# Altium footprint library TSW-104-14-T-S.PcbLib: 1 footprints
Each footprint in its own frame and in the unit in brackets; x right, y up, seen from the top. Pads: shape width x height; smd on the part's side, far side on the other; paste and mask are expansions set on the pad; w line width, h text height; cw(c..) or ccw(c..) is an arc to the next point about the centre after c.
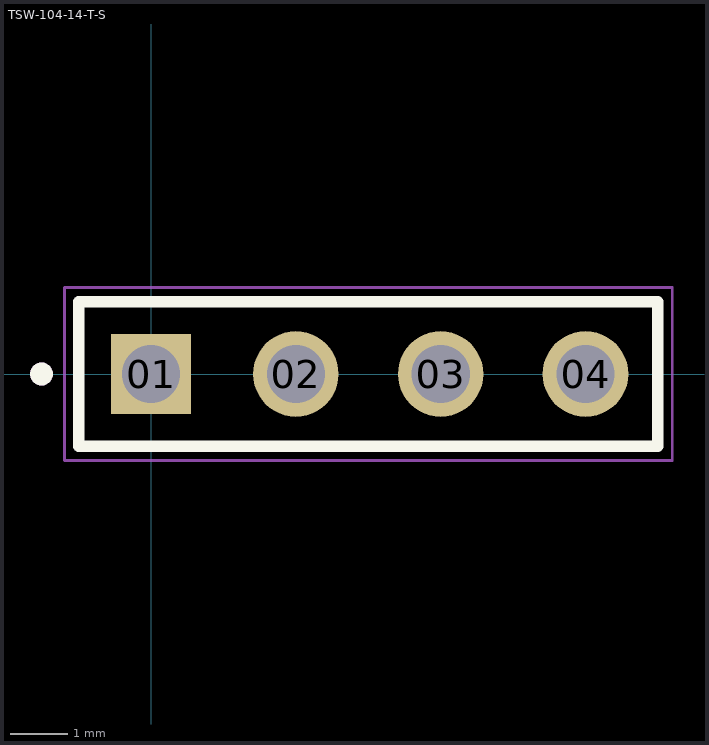
[diagram p0: the footprint, top view; thin cyan lines are the x and y axes]

## TSW-104-14-T-S [mm] "4 pins male header"
pads (4):
  rect 1.4x1.4 hole 1.02: 01(0,0)
  round 1.5 hole 1.02: 02(2.54,0) 03(5.08,0) 04(7.62,0)
Top Overlay:
  circle w0.2: c-1.92,0 r0.1
  lines w0.2: -1.27,-1.27 8.89,-1.27 8.89,1.27 -1.27,1.27 -1.27,-1.27
Mechanical 13:
  circle w0.2: c-1.92,0 r0.1
  lines w0.1: -1.27,-1.27 8.89,-1.27 8.89,1.27 -1.27,1.27 -1.27,-1.27
Mechanical 15:
  lines w0.05: -1.52,-1.52 9.14,-1.52 9.14,1.52 -1.52,1.52 -1.52,-1.52
3D body "TSW-104-14-T-S.stp": height 10.67, standoff -2.79, extent -1.397,-1.27 8.89,1.27